# Altium footprint library PushButton.PcbLib: 8 footprints
Each footprint in its own frame and in the unit in brackets; x right, y up, seen from the top. Pads: shape width x height; smd on the part's side, far side on the other; paste and mask are expansions set on the pad; w line width, h text height; cw(c..) or ccw(c..) is an arc to the next point about the centre after c.
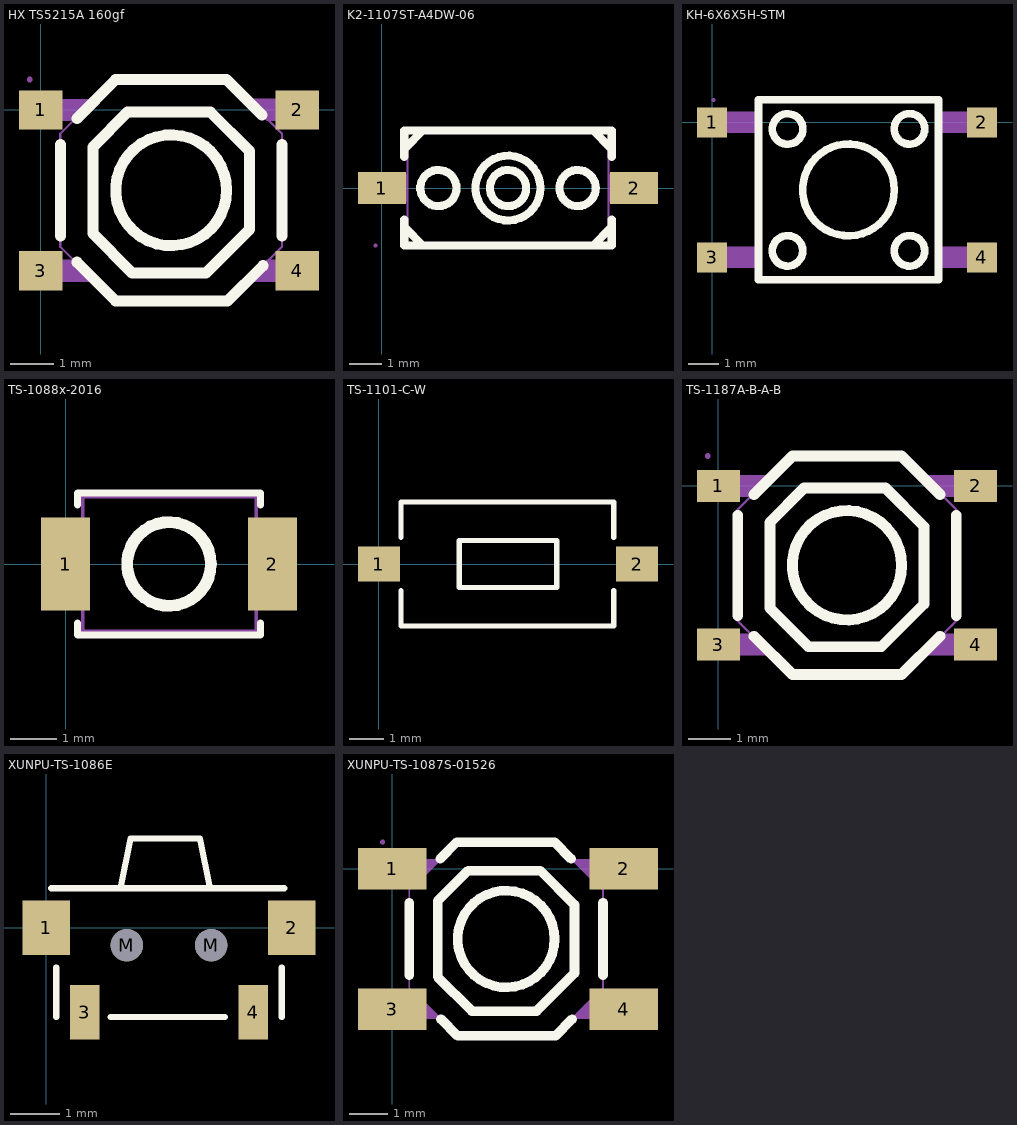
[diagram p0: the footprints below, top view; thin cyan lines are the x and y axes]

## HX TS5215A 160gf [mm] "hanxia(韩下) 5.2*5.2*1.5 金属贴片开关推荐焊盘封装"
pads (4):
  rect 1x0.9 smd: 1(0,0) 2(5.9,0) 3(0,-3.7) 4(5.9,-3.7)
Top Overlay:
  circle w0.254: c3,-1.85 r1.275
  lines w0.254: 0.45,-2.9 0.45,-0.8 ; 0.83,-3.505 1.725,-4.4 4.275,-4.4 ; 0.83,-0.195 1.725,0.7 4.275,0.7 5.09,-0.115 ; 4.3,-4.4 5.115,-3.585 ; 5.55,-2.9 5.55,-0.8 ; 1.199,-2.848 2.101,-3.75 3.8,-3.75 4.801,-2.749 4.801,-0.951 3.899,-0.049 1.999,-0.049 1.199,-0.849 1.199,-2.848
Mechanical 15:
  region: 5.85,-0.25 5.85,0.251 6.25,0.251 6.25,-0.25
  region: 5.85,-3.95 5.85,-3.45 6.25,-3.45 6.25,-3.95
  region: 5.201,-3.451 4.701,-3.951 5.861,-3.951 5.861,-3.451
  region: 5.2,-0.25 4.7,0.25 5.86,0.251 5.86,-0.25
  region: 0.8,-0.25 1.3,0.25 0.14,0.25 0.14,-0.25
  region: 0.8,-3.45 1.3,-3.95 0.14,-3.95 0.14,-3.45
  region: -0.25,-3.95 -0.25,-3.45 0.15,-3.45 0.15,-3.95
  region: -0.25,-0.251 -0.25,0.249 0.15,0.249 0.15,-0.251
  region: -0.19,0.7 -0.19,0.675 -0.225,0.64 -0.275,0.64 -0.31,0.675 -0.31,0.7 -0.31,0.725 -0.275,0.76 -0.225,0.76 -0.19,0.725
  lines w0.051: 0.45,-3.15 1.7,-4.4 4.3,-4.4 5.55,-3.15 5.55,-0.55 4.3,0.7 1.7,0.7 0.45,-0.55 0.45,-3.15
3D body "TS-1187A-B-A-B.STEP": height 1.5, standoff 0, extent -0.25,-4.4 6.25,0.7

## K2-1107ST-A4DW-06 [mm]
pads (2):
  rect 1.5x1 smd: 1(0,0) 2(7.9,0)
Top Overlay:
  circle w0.254: c3.95,0 r0.568
  circle w0.254: c3.95,0 r1.016
  circle w0.254: c6.132,0 r0.568
  circle w0.254: c1.768,0 r0.568
  lines w0.254: 0.7,-0.981 0.7,-1.8 7.2,-1.8 7.2,-0.981 ; 0.7,0.981 0.7,1.8 7.2,1.8 7.2,0.981 ; 0.752,-1.27 1.26,-1.778 ; 0.752,1.27 1.26,1.778 ; 6.64,-1.778 7.148,-1.27 ; 6.64,1.778 7.148,1.27
Mechanical 15:
  region: 7.1,-0.45 7.1,0.45 7.42,0.45 7.42,-0.45
  region: 7.4,-0.45 7.4,0.45 8.1,0.45 8.1,-0.45
  region: -0.14,-1.8 -0.14,-1.825 -0.175,-1.86 -0.225,-1.86 -0.26,-1.825 -0.26,-1.8 -0.26,-1.775 -0.225,-1.74 -0.175,-1.74 -0.14,-1.775
  region: 0.5,0.45 0.5,-0.45 -0.2,-0.45 -0.2,0.45
  region: 0.81,0.45 0.81,-0.45 0.49,-0.45 0.49,0.45
  lines w0.051: 0.8,-1.8 7.1,-1.8 7.1,1.8 0.8,1.8 0.8,-1.8
3D body "Button_SMD_3_6x6_1x2_5.step": height 2.5, standoff -0.02, extent -0.062,-1.85 7.962,1.85

## KH-6X6X5H-STM [mm]
pads (4):
  rect 1x1 smd: 1(0,0) 2(9,0) 3(0,-4.5) 4(9,-4.5)
Top Overlay:
  circle w0.254: c2.52,-0.22 r0.508
  circle w0.254: c6.582,-0.218 r0.508
  circle w0.254: c2.518,-4.282 r0.508
  circle w0.254: c6.582,-4.282 r0.508
  circle w0.254: c4.55,-2.25 r1.529
  lines w0.254: 1.55,-5.25 1.55,0.75 7.55,0.75 7.55,-5.25 1.55,-5.25
Mechanical 15:
  region: 8.05,-0.35 8.05,0.35 9.05,0.35 9.05,-0.35
  region: 7.54,-0.35 7.54,0.35 8.06,0.35 8.06,-0.35
  region: 8.05,-4.85 8.05,-4.15 9.05,-4.15 9.05,-4.85
  region: 7.54,-4.85 7.54,-4.15 8.06,-4.15 8.06,-4.85
  region: 0.05,-4.85 0.05,-4.15 1.05,-4.15 1.05,-4.85
  region: 1.04,-4.85 1.04,-4.15 1.56,-4.15 1.56,-4.85
  region: 0.05,-0.35 0.05,0.35 1.05,0.35 1.05,-0.35
  region: 1.04,-0.35 1.04,0.35 1.56,0.35 1.56,-0.35
  region: 0.11,0.75 0.11,0.725 0.075,0.69 0.025,0.69 -0.01,0.725 -0.01,0.75 -0.01,0.775 0.025,0.81 0.075,0.81 0.11,0.775
  lines w0.051: 1.55,-5.25 1.55,0.75 7.55,0.75 7.55,-5.25 1.55,-5.25
3D body "Pushbutton_SMD_6x6x5.STEP": height 5, standoff 0, extent 0.25,-5.25 8.85,0.75

## TS-1088x-2016 [mm] "XUNPU(讯普) 贴片无柱轻触开关 4*3*2 推荐焊盘封装"
pads (2):
  rect 1.05x2 smd: 1(0,0) 2(4.45,0)
Top Overlay:
  circle w0.254: c2.225,0 r0.9
  lines w0.152: 0.254,-1.27 0.254,-1.524 4.191,-1.524 4.191,-1.27 ; 0.254,1.27 0.254,1.524 4.191,1.524 4.191,1.27
Mechanical 15:
  rectangle: -0.2,-0.7 0.35,0.7
  region: 4.65,0.7 4.1,0.7 4.1,-0.7 4.65,-0.7
  lines w0.076: 0.368,-1.45 0.368,1.45 4.1,1.45 4.1,-1.45 0.368,-1.45
3D body "Pushbutton-4x3x2.STEP": height 2, standoff 0, extent -0.225,-1.45 4.675,1.45

## TS-1101-C-W [mm]
pads (2):
  rect 1.2x1 smd: 1(0,0) 2(7.4,0)
Top Overlay:
  lines w0.152: 0.635,-0.762 0.635,-1.778 6.731,-1.778 6.731,-0.762 ; 0.635,0.762 0.635,1.778 6.731,1.778 6.731,0.762 ; 2.3,-0.675 5.1,-0.675 5.1,0.675 2.3,0.675 2.3,-0.675
3D body "TS-1101-C-W.STEP": height 2.5, standoff 0, extent -0.2,-1.8 7.8,1.8

## TS-1187A-B-A-B [mm] "XKB Connection(中国星坤) 5.1*5.1*1.5 金属贴片开关推荐焊盘封装"
pads (4):
  rect 1x0.75 smd: 1(0,0) 2(6,0) 3(0,-3.7) 4(6,-3.7)
Top Overlay:
  circle w0.254: c3,-1.85 r1.275
  lines w0.254: 0.45,-3.018 0.45,-0.681 ; 0.83,-3.505 1.725,-4.4 4.275,-4.4 5.17,-3.505 ; 0.83,-0.195 1.725,0.7 4.275,0.7 5.17,-0.195 ; 5.55,-3.018 5.55,-0.681 ; 1.199,-2.848 1.199,-0.849 1.999,-0.049 3.899,-0.049 4.801,-0.951 4.801,-2.749 3.8,-3.75 2.101,-3.75 1.199,-2.848
Mechanical 15:
  region: -0.19,0.7 -0.19,0.675 -0.225,0.64 -0.275,0.64 -0.31,0.675 -0.31,0.7 -0.31,0.725 -0.275,0.76 -0.225,0.76 -0.19,0.725
  region: -0.25,-0.251 -0.25,0.249 0.15,0.249 0.15,-0.251
  region: -0.25,-3.95 -0.25,-3.45 0.15,-3.45 0.15,-3.95
  region: 0.8,-3.45 1.3,-3.95 0.14,-3.95 0.14,-3.45
  region: 0.8,-0.25 1.3,0.25 0.14,0.25 0.14,-0.25
  region: 5.2,-0.25 4.7,0.25 5.86,0.251 5.86,-0.25
  region: 5.201,-3.451 4.701,-3.951 5.861,-3.951 5.861,-3.451
  region: 5.85,-3.95 5.85,-3.45 6.25,-3.45 6.25,-3.95
  region: 5.85,-0.25 5.85,0.251 6.25,0.251 6.25,-0.25
  lines w0.051: 0.45,-3.15 0.45,-0.55 1.7,0.7 4.3,0.7 5.55,-0.55 5.55,-3.15 4.3,-4.4 1.7,-4.4 0.45,-3.15
3D body "TS-1187A-B-A-B.STEP": height 1.5, standoff 0, extent -0.223,-4.402 6.277,0.698

## XUNPU-TS-1086E [mm] "XUNPU(讯普) 4.6*1.82*3.5 金属贴片开关推荐焊盘封装"
pads (6):
  rect 0.95x1.1 smd: 1(0,0) 2(4.95,0)
  rect 0.6x1.1 smd: 3(0.775,-1.7) 4(4.175,-1.7)
  round 0.65 hole 0.65 mask+0: M(1.625,-0.35) M(3.325,-0.35)
Top Overlay:
  lines w0.127: 0.1,0.8 4.8,0.8 ; 0.2,-1.8 0.2,-0.8 ; 1.3,-1.8 3.6,-1.8 ; 1.5,0.8 1.7,1.8 3.1,1.8 3.3,0.8 ; 4.75,-1.8 4.75,-0.8
3D body "TS-1086E-AC03526.STEP": height 1.93, standoff -0.37, extent 0.16,-1.796 4.76,1.804

## XUNPU-TS-1087S-01526 [mm] "XUNPU(讯普) 5.2*5.2*1.5 金属贴片开关推荐焊盘封装"
pads (4):
  rect 1.8x1.1 smd: 1(0,0) 2(6.1,0) 3(0,-3.7) 4(6.1,-3.7)
Top Overlay:
  circle w0.254: c3,-1.85 r1.275
  lines w0.254: 0.45,-2.8 0.45,-0.9 ; 1.262,0.262 1.7,0.7 ; 1.287,-3.962 1.725,-4.4 4.275,-4.4 ; 1.725,0.7 4.275,0.7 4.713,0.263 ; 4.3,-4.4 4.738,-3.962 ; 5.55,-2.8 5.55,-0.9 ; 1.199,-2.848 1.199,-0.849 1.999,-0.049 3.899,-0.049 4.801,-0.951 4.801,-2.749 3.8,-3.75 2.101,-3.75 1.199,-2.848
Mechanical 15:
  region: -0.19,0.7 -0.19,0.675 -0.225,0.64 -0.275,0.64 -0.31,0.675 -0.31,0.7 -0.31,0.725 -0.275,0.76 -0.225,0.76 -0.19,0.725
  region: -0.25,-0.251 -0.25,0.249 0.15,0.249 0.15,-0.251
  region: -0.25,-3.95 -0.25,-3.45 0.15,-3.45 0.15,-3.95
  region: 0.8,-3.45 1.3,-3.95 0.14,-3.95 0.14,-3.45
  region: 0.8,-0.25 1.3,0.25 0.14,0.25 0.14,-0.25
  region: 5.2,-0.25 4.7,0.25 5.86,0.251 5.86,-0.25
  region: 5.201,-3.451 4.701,-3.951 5.861,-3.951 5.861,-3.451
  region: 5.85,-3.95 5.85,-3.45 6.25,-3.45 6.25,-3.95
  region: 5.85,-0.25 5.85,0.251 6.25,0.251 6.25,-0.25
  lines w0.051: 0.45,-3.15 0.45,-0.55 1.7,0.7 4.3,0.7 5.55,-0.55 5.55,-3.15 4.3,-4.4 1.7,-4.4 0.45,-3.15
3D body "TS-1187A-B-A-B.STEP": height 1.5, standoff 0, extent -0.25,-4.4 6.25,0.7